# Altium schematic symbol library PCA9515.SchLib: 1 symbol
Pins are listed as number, name and electrical type; pins without a type are passive.

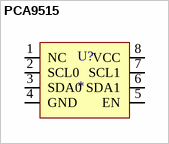
[diagram p0: symbol PCA9515]

## PCA9515
designator U?
I2C-bus repeater; Part No.: PCA9515ADP; Manufacturer: NXP; Vendor: Mouser; Price Est.: $1.34
footprint TSSOP-8 (Shrink Small Outline; 8 Leads; Body Width 4.4 mm; Pitch 0.65 mm)
pins: 1 NC, 2 SCL0, 3 SDA0, 4 GND, 5 EN, 6 SDA1, 7 SCL1, 8 VCC